# EAGLE library part OPA2373 (library personal)
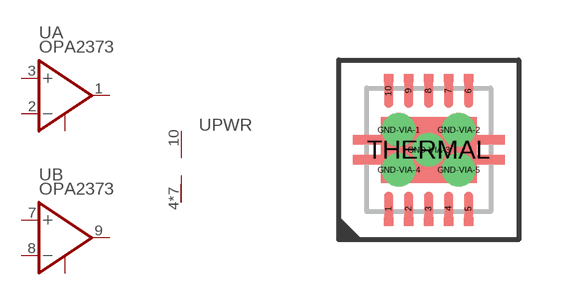
[diagram p18: symbol with the pads of DFN-10; footprint DFN-10]

Designator prefix U; gates PWR=V+- A=OPAMP B=OPAMP

## OPA2373  [DFN-10]
1  A:OUT  out
2  A:-IN  in
3  A:+IN  in
4  PWR:V-  pwr
5  A:ENABLE
6  B:ENABLE
7  B:+IN  in
8  B:-IN  in
9  B:OUT  out
10  PWR:V+  pwr
GND-VIA-1  PWR:V-  pwr
GND-VIA-2  PWR:V-  pwr
GND-VIA-3  PWR:V-  pwr
GND-VIA-4  PWR:V-  pwr
GND-VIA-5  PWR:V-  pwr
THERMAL  PWR:V-  pwr

## Footprint DFN-10 (pad centres in mm)
smd 0.23 x 0.85: 1 -1,-1.475; 2 -0.5,-1.475; 3 0,-1.475; 4 0.5,-1.475; 5 1,-1.475; 6 1,1.475; 7 0.5,1.475; 8 0,1.475; 9 -0.5,1.475; 10 -1,1.475
drill 0.33 pad 0.508: GND-VIA-1 -0.75,0.5; GND-VIA-2 0.75,0.5; GND-VIA-3 0,0; GND-VIA-4 -0.75,-0.5; GND-VIA-5 0.75,-0.5
smd 2.4 x 1.65: THERMAL 0,0